# EAGLE library part TLC2801 (library IC)
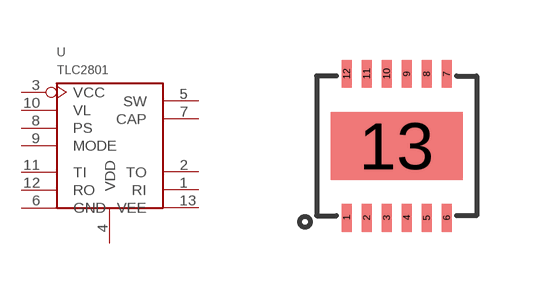
[diagram p143: symbol with the pads of DFN12; footprint DFN12]

Designator prefix U

## TLC2801  [DFN12]
1  RI
2  TO
3  VCC
4  VDD
5  SW
6  GND
7  CAP
8  PS
9  MODE
10  VL
11  TI
12  RO
13  VEE

## Footprint DFN12 (pad centres in mm)
smd 0.25 x 0.7: 1 -1.25,-1.8; 2 -0.75,-1.8; 3 -0.25,-1.8; 4 0.25,-1.8; 5 0.75,-1.8; 6 1.25,-1.8; 7 1.25,1.8; 8 0.75,1.8; 9 0.25,1.8; 10 -0.25,1.8; 11 -0.75,1.8; 12 -1.25,1.8
smd 3.3 x 1.7: 13 0,0